# Altium schematic symbol library SnapEDAsch.SchLib: 1 symbol
Pins are listed as number, name and electrical type; pins without a type are passive.

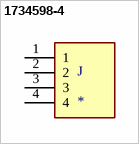
[diagram p0: symbol 1734598-4]

## 1734598-4
designator J
Conn High Performance Interconnect HDR 4 POS 1.25mm Solder ST Thru-Hole Tube; MF: TE Connectivity; MP: 1734598-4; EU_RoHS_Compliance: Compliant; Digi-Key_Purchase_URL: https://www.digikey.com/product-detail/en/te-connectivity-amp-connectors/1734598-4/A99916-ND/2074075?utm_source=snapeda&utm_medium=aggregator&utm_campaign=symbol; Digi-Key_Part_Number: A99916-ND; TE_purchase_URL: https://www.te.com/usa-en/product-1734598-4.html?te_bu=Cor&te_type=disp&te_campaign=seda_glo_cor-seda-global-disp-prtnr-fy19-seda-model-bom-cta_sma-317_1&elqCampaignId=32493; Package: None; SnapEDA_Link: https://www.snapeda.com/parts/1734598-4/TE%20Connectivity%20AMP%20Connectors/view-part/2374854/?ref=snap; Value: *
footprint TE_1734598-4
pins: 1, 2, 3, 4